# EAGLE library part MOLEX-87760-1216 (library Parts for D-DAQ)
12-pin Header, Right Angle
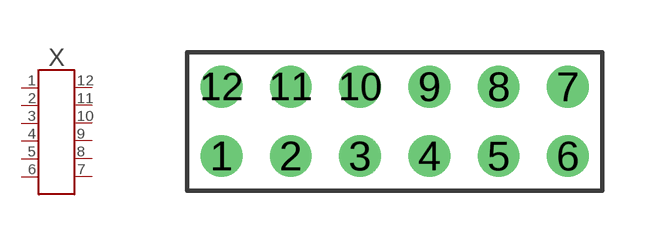
[diagram p16: symbol with the pads of MOLEX-87760-1216; footprint MOLEX-87760-1216]

Designator prefix X

## MOLEX-87760-1216  [MOLEX-87760-1216]
1  P$1  pas
2  P$2  pas
3  P$3  pas
4  P$4  pas
5  P$5  pas
6  P$6  pas
7  P$7  pas
8  P$8  pas
9  P$9  pas
10  P$10  pas
11  P$11  pas
12  P$12  pas

## Footprint MOLEX-87760-1216 (pad centres in mm)
drill 0.7: 1 -5,-1; 2 -3,-1; 3 -1,-1; 4 1,-1; 5 3,-1; 6 5,-1; 7 5,1; 8 3,1; 9 1,1; 10 -1,1; 11 -3,1; 12 -5,1